# Altium schematic symbol library AltiumDesigner.SchLib: 2 symbols
Pins are listed as number, name and electrical type; pins without a type are passive.

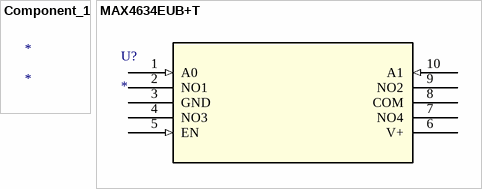
[diagram p0: symbols Component_1 to MAX4634EUB+T]

## Component_1
designator *

## MAX4634EUB+T
designator U?
Imported; Manufacturer_Part_Number: MAX4634EUB+T; Vendor: Maxim Integrated Products; C: Copyright (C) 2015 Accelerated Designs. All rights reserved; Value: Value; Type: Type; RefDes: RefDes
footprint 21-0061L
pins: 1 A0 (in), 2 NO1, 3 GND (power), 4 NO3, 5 EN (in), 6 V+ (power), 7 NO4, 8 COM, 9 NO2, 10 A1 (in)